# Altium integrated library Analog Devices Operational Amplifiers.IntLib: 2102 symbols (part 62 of 70)
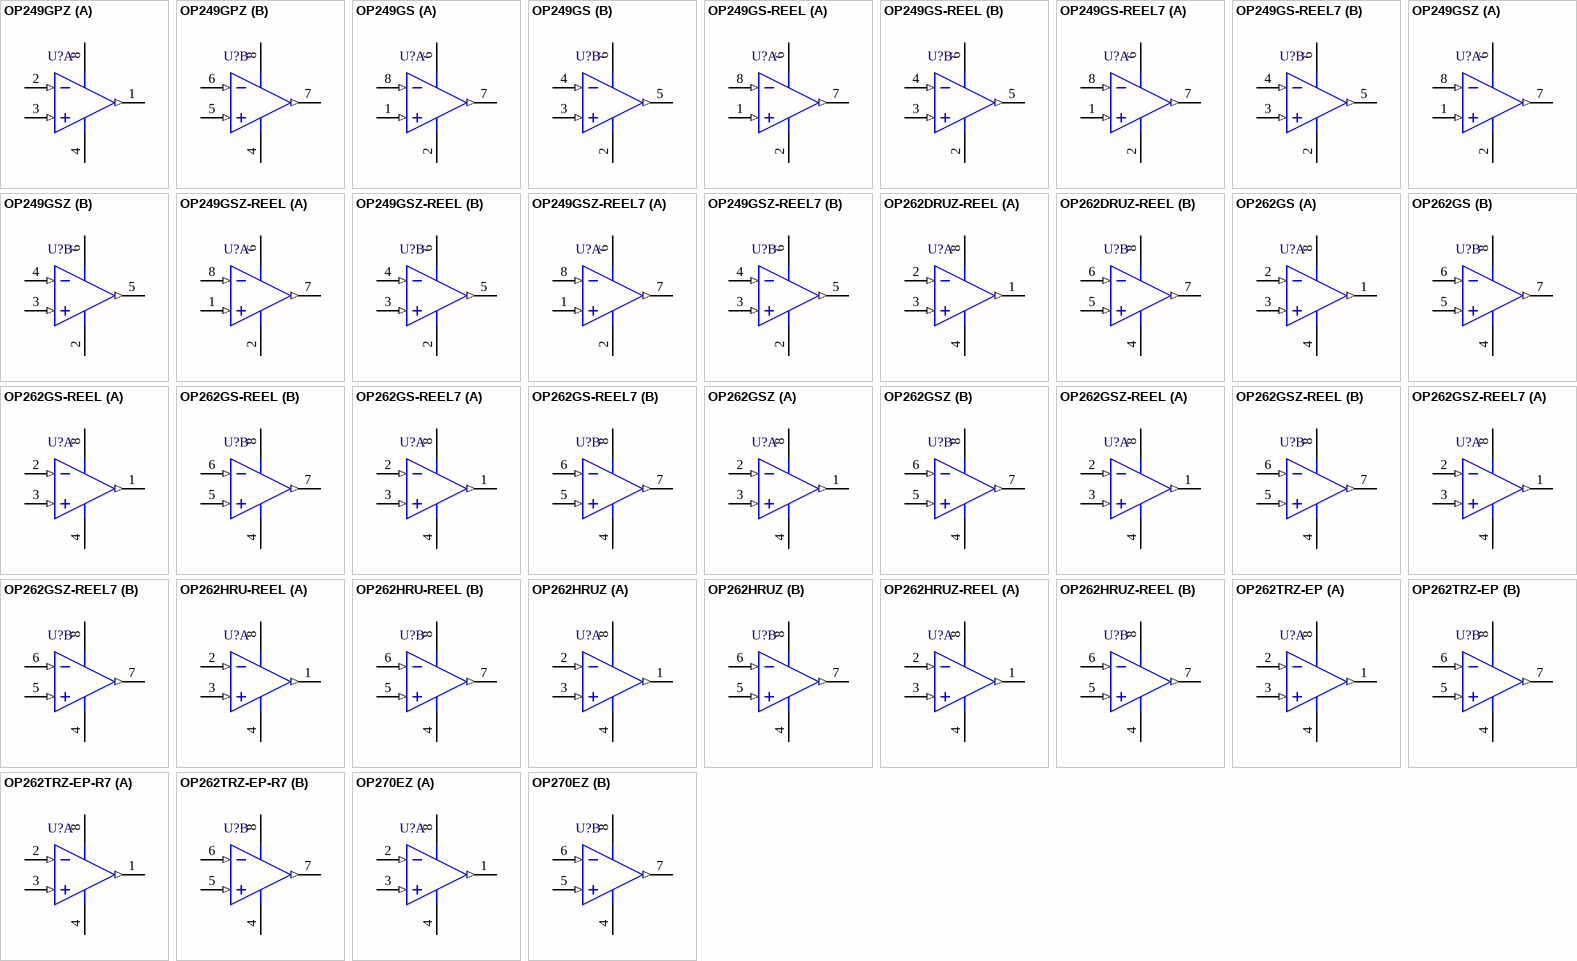
[diagram p175: symbols OP249GPZ to OP270EZ]

## OP262TRZ-EP-R7
designator U?
Double Channel Wide Bandwidth Operational Amplifier, 15 MHz BW, 13 V/us SR, Military, 8-pin SOIC (R-8), Reel; Generic Part Number: OP262; Manufacturer: Analog Devices; PartNumber: OP262TRZ-EP-R7; Amplifiers Per Package: 2; Input Bias Current: 260nA; Input Offset Voltage: 25uV; Iq/Amp: 775uA; Slew Rate: 13V/us; Small Signal Bandwidth: 15MHz; V Span Max: 12V; V Span Min: 2.7V; DatasheetVersion: Rev. G; PackageVersion: 060506-A; PackageReference: R-8; PackageDescription: 8-Pin Standard Small Outline Package, Body 3.9 x 4.9 mm, Pitch 1.27 mm; Supplier 1: Digi-Key; Supplier Part Number 1: OP262TRZ-EP-R7TR-ND; Supplier 2: Digi-Key; Supplier Part Number 2: OP262TRZ-EP-R7CT-ND; Supplier 3: Digi-Key; Supplier Part Number 3: OP262TRZ-EP-R7DKR-ND; Supplier 4: Newark; Supplier Part Number 4: 85R9010; Packing: Reel; Mounting Technology: Surface Mount; Code_JEDEC: MS-012-AA; ComponentLink1Description: Manufacturer URL; ComponentLink1URL: http://www.analog.com/en/index.html; ComponentLink2Description: Datasheet; ComponentLink2URL: http://www.analog.com/static/imported-files/data_sheets/OP162_262_462.pdf; ComponentLink3Description: Package Specification; ComponentLink3URL: http://www.analog.com/static/imported-files/packages/PKG_PDF/SOIC_Narrow%20(R)/R_8.pdf
footprint ADI-R-8_N (SOIC, 8-Leads, Body 4.9x3.9mm, Pitch 1.27mm, IPC Medium Density)
footprint ADI-R-8_L (SOIC, 8-Leads, Body 4.9x3.9mm, Pitch 1.27mm, IPC High Density)
footprint ADI-R-8_M (SOIC, 8-Leads, Body 4.9x3.9mm, Pitch 1.27mm, IPC Low Density)
pins on every part: 4 -V (power), 8 +V (power)
part A pins: 1 OUT A (out), 2 -IN A (in), 3 +IN A (in)
part B pins: 5 +IN B (in), 6 -IN B (in), 7 OUT B (out)

## OP270EZ
designator U?
Double Channel Very Low Noise Operational Amplifier, 5 MHz BW, 2.4 V/us SR, Industrial, 8-pin DIP (Q-8), Tube; Generic Part Number: OP270; Manufacturer: Analog Devices; PartNumber: OP270EZ; Amplifiers Per Package: 2; Input Bias Current: 15nA; Input Offset Voltage: 50uV; Iq/Amp: 3.25mA; Small Signal Bandwidth: 5MHz; V Span Max: 36V; V Span Min: 9V; DatasheetVersion: Rev. E; PackageReference: Q-8; PackageDescription: 8-Pin Ceramic Dual In-Line Package, Row spacing 7.62 mm, Pitch 2.54 mm; Supplier 1: Digi-Key; Supplier Part Number 1: OP270EZ-ND; Supplier 2: Farnell; Supplier Part Number 2: 3182411; Supplier 3: Newark; Supplier Part Number 3: 05F8617; Packing: Tube; Slew Rate: 2.4V/us; Mounting Technology: Through Hole; ComponentLink1Description: Manufacturer URL; ComponentLink1URL: http://www.analog.com/en/index.html; ComponentLink2Description: Datasheet; ComponentLink2URL: http://www.analog.com/static/imported-files/data_sheets/OP270.pdf; ComponentLink3Description: Package Specification; ComponentLink3URL: http://www.analog.com/static/imported-files/packages/3925655241313314758Q_8.pdf
footprint ADI-Q-8 (DIP, 8-Leads, Body 10.29x6.73mm, Pitch 2.54mm)
pins on every part: 4 -V (power), 8 +V (power)
part A pins: 1 OUT A (out), 2 -IN A (in), 3 +IN A (in)
part B pins: 5 +IN B (in), 6 -IN B (in), 7 OUT B (out)

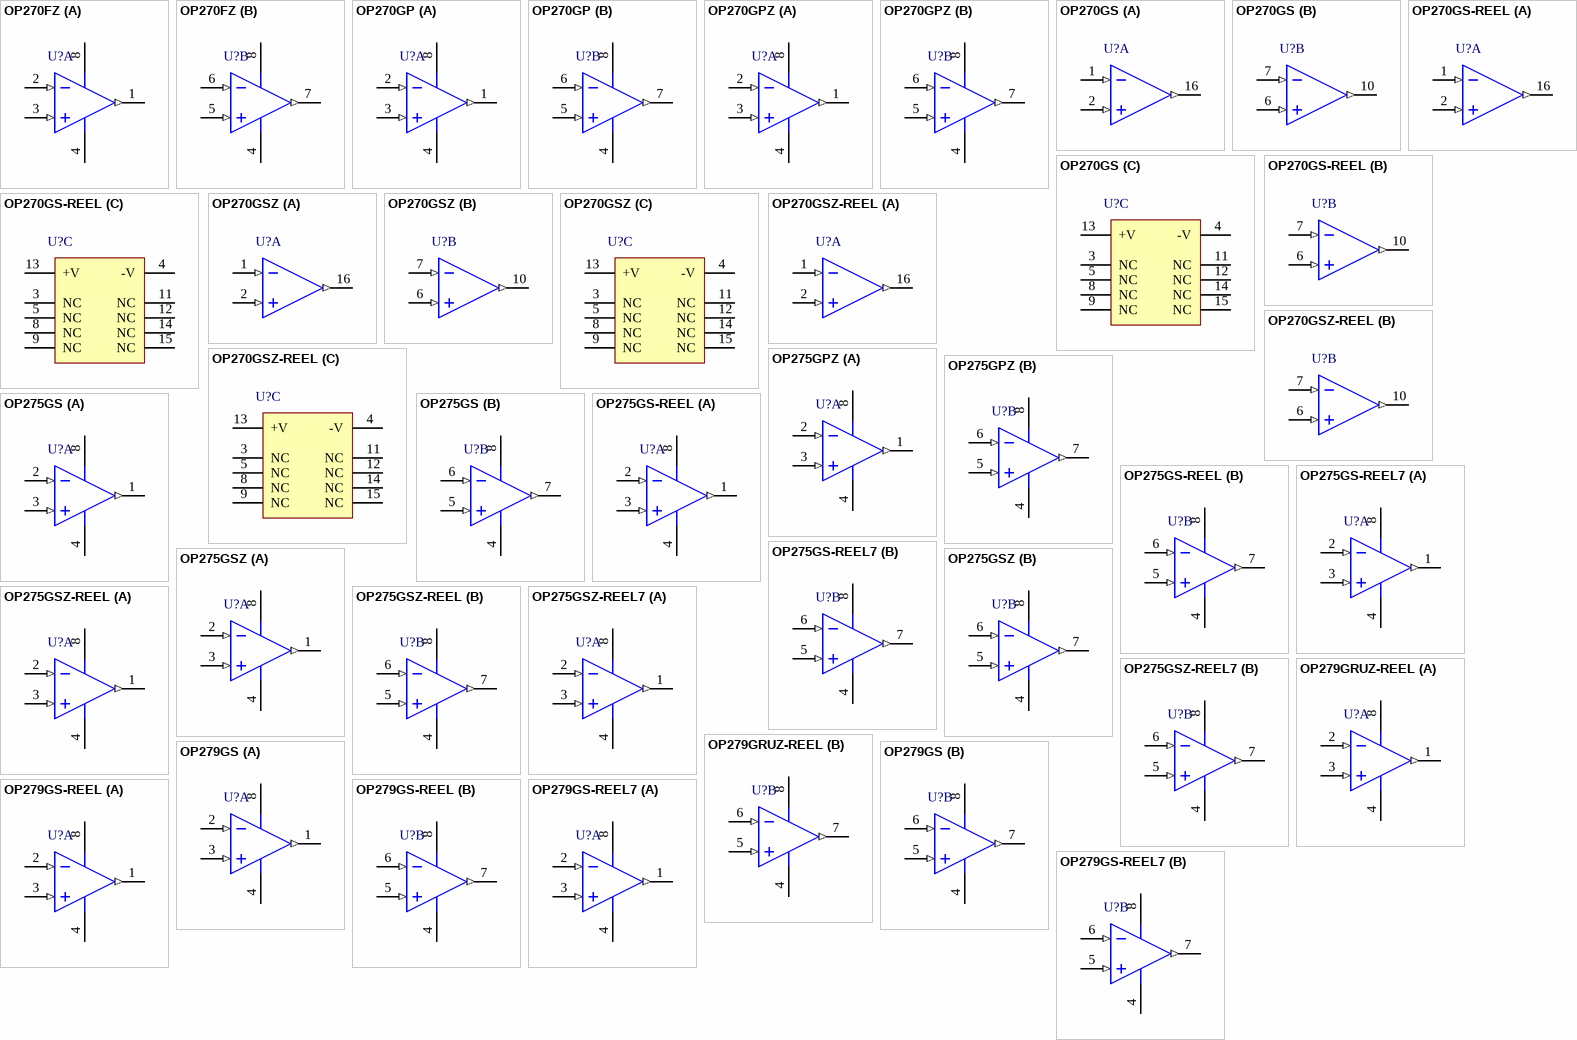
[diagram p95: symbols OP270FZ to OP279GS-REEL7]

## OP270FZ
designator U?
Double Channel Very Low Noise Operational Amplifier, 5 MHz BW, 2.4 V/us SR, Industrial, 8-pin DIP (Q-8), Tube; Generic Part Number: OP270; Manufacturer: Analog Devices; PartNumber: OP270FZ; Amplifiers Per Package: 2; Input Bias Current: 15nA; Input Offset Voltage: 50uV; Iq/Amp: 3.25mA; Small Signal Bandwidth: 5MHz; V Span Max: 36V; V Span Min: 9V; DatasheetVersion: Rev. E; PackageReference: Q-8; PackageDescription: 8-Pin Ceramic Dual In-Line Package, Row spacing 7.62 mm, Pitch 2.54 mm; Supplier 1: Digi-Key; Supplier Part Number 1: OP270FZ-ND; Supplier 2: Farnell; Supplier Part Number 2: 399450; Supplier 3: Newark; Supplier Part Number 3: 05F8618; Packing: Tube; Slew Rate: 2.4V/us; Mounting Technology: Through Hole; ComponentLink1Description: Manufacturer URL; ComponentLink1URL: http://www.analog.com/en/index.html; ComponentLink2Description: Datasheet; ComponentLink2URL: http://www.analog.com/static/imported-files/data_sheets/OP270.pdf; ComponentLink3Description: Package Specification; ComponentLink3URL: http://www.analog.com/static/imported-files/packages/3925655241313314758Q_8.pdf
footprint ADI-Q-8 (DIP, 8-Leads, Body 10.29x6.73mm, Pitch 2.54mm)
pins on every part: 4 -V (power), 8 +V (power)
part A pins: 1 OUT A (out), 2 -IN A (in), 3 +IN A (in)
part B pins: 5 +IN B (in), 6 -IN B (in), 7 OUT B (out)

## OP270GP
designator U?
Double Channel Very Low Noise Operational Amplifier, 5 MHz BW, 2.4 V/us SR, Industrial, 8-pin DIP (N-8), Tube; Generic Part Number: OP270; Manufacturer: Analog Devices; PartNumber: OP270GP; Amplifiers Per Package: 2; Input Bias Current: 15nA; Input Offset Voltage: 50uV; Iq/Amp: 3.25mA; Small Signal Bandwidth: 5MHz; V Span Max: 36V; V Span Min: 9V; DatasheetVersion: Rev. E; PackageVersion: 070606-A; PackageReference: N-8; PackageDescription: 8-Pin Plastic Dual In-Line Package, Row spacing 7.62 mm, Pitch 2.54 mm; Supplier 1: Digi-Key; Supplier Part Number 1: OP270GP-ND; Packing: Tube; Slew Rate: 2.4V/us; Mounting Technology: Through Hole; Code_JEDEC: MS-001; ComponentLink1Description: Manufacturer URL; ComponentLink1URL: http://www.analog.com/en/index.html; ComponentLink2Description: Datasheet; ComponentLink2URL: http://www.analog.com/static/imported-files/data_sheets/OP270.pdf; ComponentLink3Description: Package Specification; ComponentLink3URL: http:/www.analog.com/static/imported-files/packages/PKG_PDF/PDIP(N)/N_8.pdf
footprint ADI-N-8 (DIP, 8-Leads, Body 9.59x6.6mm, Pitch 2.54mm)
pins on every part: 4 -V (power), 8 +V (power)
part A pins: 1 OUT A (out), 2 -IN A (in), 3 +IN A (in)
part B pins: 5 +IN B (in), 6 -IN B (in), 7 OUT B (out)

## OP270GPZ
designator U?
Double Channel Very Low Noise Operational Amplifier, 5 MHz BW, 2.4 V/us SR, Industrial, 8-pin DIP (N-8), Tube; Generic Part Number: OP270; Manufacturer: Analog Devices; PartNumber: OP270GPZ; Amplifiers Per Package: 2; Input Bias Current: 15nA; Input Offset Voltage: 50uV; Iq/Amp: 3.25mA; Small Signal Bandwidth: 5MHz; V Span Max: 36V; V Span Min: 9V; DatasheetVersion: Rev. E; PackageVersion: 070606-A; PackageReference: N-8; PackageDescription: 8-Pin Plastic Dual In-Line Package, Row spacing 7.62 mm, Pitch 2.54 mm; Supplier 1: Digi-Key; Supplier Part Number 1: OP270GPZ-ND; Supplier 2: Farnell; Supplier Part Number 2: 1523894; Supplier 3: Farnell; Supplier Part Number 3: 9604723; Supplier 4: Newark; Supplier Part Number 4: 59K8832; Packing: Tube; Slew Rate: 2.4V/us; Mounting Technology: Through Hole; Code_JEDEC: MS-001; ComponentLink1Description: Manufacturer URL; ComponentLink1URL: http://www.analog.com/en/index.html; ComponentLink2Description: Datasheet; ComponentLink2URL: http://www.analog.com/static/imported-files/data_sheets/OP270.pdf; ComponentLink3Description: Package Specification; ComponentLink3URL: http:/www.analog.com/static/imported-files/packages/PKG_PDF/PDIP(N)/N_8.pdf
footprint ADI-N-8 (DIP, 8-Leads, Body 9.59x6.6mm, Pitch 2.54mm)
pins on every part: 4 -V (power), 8 +V (power)
part A pins: 1 OUT A (out), 2 -IN A (in), 3 +IN A (in)
part B pins: 5 +IN B (in), 6 -IN B (in), 7 OUT B (out)

## OP270GS
designator U?
Double Channel Very Low Noise Operational Amplifier, 5 MHz BW, 2.4 V/us SR, Industrial, 16-pin SOIC (RW-16), Tube; Generic Part Number: OP270; Manufacturer: Analog Devices; PartNumber: OP270GS; Amplifiers Per Package: 2; Input Bias Current: 15nA; Input Offset Voltage: 50uV; Iq/Amp: 3.25mA; Small Signal Bandwidth: 5MHz; V Span Max: 36V; V Span Min: 9V; DatasheetVersion: Rev. E; PackageVersion: 032707-B; PackageReference: RW-16; PackageDescription: 16-Pin Standard Small Outline Package, Body 10.3 x 7.5 mm, Pitch 1.27 mm; Supplier 1: Digi-Key; Supplier Part Number 1: OP270GS-ND; Packing: Tube; Slew Rate: 2.4V/us; Mounting Technology: Surface Mount; Code_JEDEC: MS-013-AA; ComponentLink1Description: Manufacturer URL; ComponentLink1URL: http://www.analog.com/en/index.html; ComponentLink2Description: Datasheet; ComponentLink2URL: http://www.analog.com/static/imported-files/data_sheets/OP270.pdf; ComponentLink3Description: Package Specification; ComponentLink3URL: http://www.analog.com/static/imported-files/packages/PKG_PDF/SOIC_WIDE%20%28RW%29/RW_16.pdf
footprint ADI-RW-16_N (SOIC, 16-Leads, Body 10.3x7.5mm, Pitch 1.27mm,IPC Medium Density)
footprint ADI-RW-16_L (SOIC, 16-Leads, Body 10.3x7.5mm, Pitch 1.27mm, IPC High Density)
footprint ADI-RW-16_M (SOIC, 16-Leads, Body 10.3x7.5mm, Pitch 1.27mm, IPC Low Density)
part A pins: 1 -IN A (in), 2 +IN A (in), 16 OUT A (out)
part B pins: 6 +IN B (in), 7 -IN B (in), 10 OUT B (out)
part C pins: 3 NC, 4 -V (power), 5 NC, 8 NC, 9 NC, 11 NC, 12 NC, 13 +V (power), 14 NC, 15 NC

## OP270GS-REEL
designator U?
Double Channel Very Low Noise Operational Amplifier, 5 MHz BW, 2.4 V/us SR, Industrial, 16-pin SOIC (RW-16), Reel; Generic Part Number: OP270; Manufacturer: Analog Devices; PartNumber: OP270GS-REEL; Amplifiers Per Package: 2; Input Bias Current: 15nA; Input Offset Voltage: 50uV; Iq/Amp: 3.25mA; Small Signal Bandwidth: 5MHz; V Span Max: 36V; V Span Min: 9V; DatasheetVersion: Rev. E; PackageVersion: 032707-B; PackageReference: RW-16; PackageDescription: 16-Pin Standard Small Outline Package, Body 10.3 x 7.5 mm, Pitch 1.27 mm; Supplier 1: Digi-Key; Supplier Part Number 1: OP270GS-REEL-ND; Supplier 2: Newark; Supplier Part Number 2: 09B8382; Packing: Reel; Slew Rate: 2.4V/us; Mounting Technology: Surface Mount; Code_JEDEC: MS-013-AA; ComponentLink1Description: Manufacturer URL; ComponentLink1URL: http://www.analog.com/en/index.html; ComponentLink2Description: Datasheet; ComponentLink2URL: http://www.analog.com/static/imported-files/data_sheets/OP270.pdf; ComponentLink3Description: Package Specification; ComponentLink3URL: http://www.analog.com/static/imported-files/packages/PKG_PDF/SOIC_WIDE%20%28RW%29/RW_16.pdf
footprint ADI-RW-16_N (SOIC, 16-Leads, Body 10.3x7.5mm, Pitch 1.27mm,IPC Medium Density)
footprint ADI-RW-16_L (SOIC, 16-Leads, Body 10.3x7.5mm, Pitch 1.27mm, IPC High Density)
footprint ADI-RW-16_M (SOIC, 16-Leads, Body 10.3x7.5mm, Pitch 1.27mm, IPC Low Density)
part A pins: 1 -IN A (in), 2 +IN A (in), 16 OUT A (out)
part B pins: 6 +IN B (in), 7 -IN B (in), 10 OUT B (out)
part C pins: 3 NC, 4 -V (power), 5 NC, 8 NC, 9 NC, 11 NC, 12 NC, 13 +V (power), 14 NC, 15 NC

## OP270GSZ
designator U?
Double Channel Very Low Noise Operational Amplifier, 5 MHz BW, 2.4 V/us SR, Industrial, 16-pin SOIC (RW-16), Tube; Generic Part Number: OP270; Manufacturer: Analog Devices; PartNumber: OP270GSZ; Amplifiers Per Package: 2; Input Bias Current: 15nA; Input Offset Voltage: 50uV; Iq/Amp: 3.25mA; Small Signal Bandwidth: 5MHz; V Span Max: 36V; V Span Min: 9V; DatasheetVersion: Rev. E; PackageVersion: 032707-B; PackageReference: RW-16; PackageDescription: 16-Pin Standard Small Outline Package, Body 10.3 x 7.5 mm, Pitch 1.27 mm; Supplier 1: Digi-Key; Supplier Part Number 1: OP270GSZ-ND; Supplier 2: Newark; Supplier Part Number 2: 59K8833; Packing: Tube; Slew Rate: 2.4V/us; Mounting Technology: Surface Mount; Code_JEDEC: MS-013-AA; ComponentLink1Description: Manufacturer URL; ComponentLink1URL: http://www.analog.com/en/index.html; ComponentLink2Description: Datasheet; ComponentLink2URL: http://www.analog.com/static/imported-files/data_sheets/OP270.pdf; ComponentLink3Description: Package Specification; ComponentLink3URL: http://www.analog.com/static/imported-files/packages/PKG_PDF/SOIC_WIDE%20%28RW%29/RW_16.pdf
footprint ADI-RW-16_N (SOIC, 16-Leads, Body 10.3x7.5mm, Pitch 1.27mm,IPC Medium Density)
footprint ADI-RW-16_L (SOIC, 16-Leads, Body 10.3x7.5mm, Pitch 1.27mm, IPC High Density)
footprint ADI-RW-16_M (SOIC, 16-Leads, Body 10.3x7.5mm, Pitch 1.27mm, IPC Low Density)
part A pins: 1 -IN A (in), 2 +IN A (in), 16 OUT A (out)
part B pins: 6 +IN B (in), 7 -IN B (in), 10 OUT B (out)
part C pins: 3 NC, 4 -V (power), 5 NC, 8 NC, 9 NC, 11 NC, 12 NC, 13 +V (power), 14 NC, 15 NC

## OP270GSZ-REEL
designator U?
Double Channel Very Low Noise Operational Amplifier, 5 MHz BW, 2.4 V/us SR, Industrial, 16-pin SOIC (RW-16), Reel; Generic Part Number: OP270; Manufacturer: Analog Devices; PartNumber: OP270GSZ-REEL; Amplifiers Per Package: 2; Input Bias Current: 15nA; Input Offset Voltage: 50uV; Iq/Amp: 3.25mA; Small Signal Bandwidth: 5MHz; V Span Max: 36V; V Span Min: 9V; DatasheetVersion: Rev. E; PackageVersion: 032707-B; PackageReference: RW-16; PackageDescription: 16-Pin Standard Small Outline Package, Body 10.3 x 7.5 mm, Pitch 1.27 mm; Supplier 1: Digi-Key; Supplier Part Number 1: OP270GSZ-REELTR-ND; Supplier 2: Digi-Key; Supplier Part Number 2: OP270GSZ-REELCT-ND; Supplier 3: Digi-Key; Supplier Part Number 3: OP270GSZ-REELDKR-ND; Supplier 4: Newark; Supplier Part Number 4: 59K8834; Packing: Reel; Slew Rate: 2.4V/us; Mounting Technology: Surface Mount; Code_JEDEC: MS-013-AA; ComponentLink1Description: Manufacturer URL; ComponentLink1URL: http://www.analog.com/en/index.html; ComponentLink2Description: Datasheet; ComponentLink2URL: http://www.analog.com/static/imported-files/data_sheets/OP270.pdf; ComponentLink3Description: Package Specification; ComponentLink3URL: http://www.analog.com/static/imported-files/packages/PKG_PDF/SOIC_WIDE%20%28RW%29/RW_16.pdf
footprint ADI-RW-16_N (SOIC, 16-Leads, Body 10.3x7.5mm, Pitch 1.27mm,IPC Medium Density)
footprint ADI-RW-16_L (SOIC, 16-Leads, Body 10.3x7.5mm, Pitch 1.27mm, IPC High Density)
footprint ADI-RW-16_M (SOIC, 16-Leads, Body 10.3x7.5mm, Pitch 1.27mm, IPC Low Density)
part A pins: 1 -IN A (in), 2 +IN A (in), 16 OUT A (out)
part B pins: 6 +IN B (in), 7 -IN B (in), 10 OUT B (out)
part C pins: 3 NC, 4 -V (power), 5 NC, 8 NC, 9 NC, 11 NC, 12 NC, 13 +V (power), 14 NC, 15 NC

## OP275GPZ
designator U?
Double Channel Excellent Sonic Characteristics Operational Amplifier, 9 MHz BW, 22 V/us SR, Industrial, 8-pin DIP (N-8), Tube; Generic Part Number: OP275; Manufacturer: Analog Devices; PartNumber: OP275GPZ; Amplifiers Per Package: 2; Input Bias Current: 100nA; Input Offset Voltage: 1mV; Iq/Amp: 2.5mA; Slew Rate: 22V/us; Small Signal Bandwidth: 9MHz; V Span Max: 44V; V Span Min: 9V; DatasheetVersion: Rev. C; PackageVersion: 070606-A; PackageReference: N-8; PackageDescription: 8-Pin Plastic Dual In-Line Package, Row spacing 7.62 mm, Pitch 2.54 mm; Supplier 1: Digi-Key; Supplier Part Number 1: OP275GPZ-ND; Supplier 2: Farnell; Supplier Part Number 2: 1523882; Supplier 3: Farnell; Supplier Part Number 3: 9603760; Supplier 4: Newark; Supplier Part Number 4: 19M1029; Mounting Technology: Through Hole; Code_JEDEC: MS-001; ComponentLink1Description: Manufacturer URL; ComponentLink1URL: http://www.analog.com/en/index.html; ComponentLink2Description: Datasheet; ComponentLink2URL: http://www.analog.com/static/imported-files/data_sheets/OP275.pdf; ComponentLink3Description: Package Specification; ComponentLink3URL: http:/www.analog.com/static/imported-files/packages/PKG_PDF/PDIP(N)/N_8.pdf
footprint ADI-N-8 (DIP, 8-Leads, Body 9.59x6.6mm, Pitch 2.54mm)
pins on every part: 4 -V (power), 8 +V (power)
part A pins: 1 OUT A (out), 2 -IN A (in), 3 +IN A (in)
part B pins: 5 +IN B (in), 6 -IN B (in), 7 OUT B (out)

## OP275GS
designator U?
Double Channel Excellent Sonic Characteristics Operational Amplifier, 9 MHz BW, 22 V/us SR, Industrial, 8-pin SOIC (R-8), Tube; Generic Part Number: OP275; Manufacturer: Analog Devices; PartNumber: OP275GS; Amplifiers Per Package: 2; Input Bias Current: 100nA; Input Offset Voltage: 1mV; Iq/Amp: 2.5mA; Slew Rate: 22V/us; Small Signal Bandwidth: 9MHz; V Span Max: 44V; V Span Min: 9V; DatasheetVersion: Rev. C; PackageVersion: 060506-A; PackageReference: R-8; PackageDescription: 8-Pin Standard Small Outline Package, Body 3.9 x 4.9 mm, Pitch 1.27 mm; Supplier 1: Digi-Key; Supplier Part Number 1: OP275GS-ND; Mounting Technology: Surface Mount; Code_JEDEC: MS-012-AA; ComponentLink1Description: Manufacturer URL; ComponentLink1URL: http://www.analog.com/en/index.html; ComponentLink2Description: Datasheet; ComponentLink2URL: http://www.analog.com/static/imported-files/data_sheets/OP275.pdf; ComponentLink3Description: Package Specification; ComponentLink3URL: http://www.analog.com/static/imported-files/packages/PKG_PDF/SOIC_Narrow%20(R)/R_8.pdf
footprint ADI-R-8_N (SOIC, 8-Leads, Body 4.9x3.9mm, Pitch 1.27mm, IPC Medium Density)
footprint ADI-R-8_L (SOIC, 8-Leads, Body 4.9x3.9mm, Pitch 1.27mm, IPC High Density)
footprint ADI-R-8_M (SOIC, 8-Leads, Body 4.9x3.9mm, Pitch 1.27mm, IPC Low Density)
pins on every part: 4 -V (power), 8 +V (power)
part A pins: 1 OUT A (out), 2 -IN A (in), 3 +IN A (in)
part B pins: 5 +IN B (in), 6 -IN B (in), 7 OUT B (out)

## OP275GS-REEL
designator U?
Double Channel Excellent Sonic Characteristics Operational Amplifier, 9 MHz BW, 22 V/us SR, Industrial, 8-pin SOIC (R-8), Reel; Generic Part Number: OP275; Manufacturer: Analog Devices; PartNumber: OP275GS-REEL; Amplifiers Per Package: 2; Input Bias Current: 100nA; Input Offset Voltage: 1mV; Iq/Amp: 2.5mA; Slew Rate: 22V/us; Small Signal Bandwidth: 9MHz; V Span Max: 44V; V Span Min: 9V; DatasheetVersion: Rev. C; PackageVersion: 060506-A; PackageReference: R-8; PackageDescription: 8-Pin Standard Small Outline Package, Body 3.9 x 4.9 mm, Pitch 1.27 mm; Supplier 1: Digi-Key; Supplier Part Number 1: OP275GS-REEL-ND; Supplier 2: Newark; Supplier Part Number 2: 09B8384; Mounting Technology: Surface Mount; Code_JEDEC: MS-012-AA; ComponentLink1Description: Manufacturer URL; ComponentLink1URL: http://www.analog.com/en/index.html; ComponentLink2Description: Datasheet; ComponentLink2URL: http://www.analog.com/static/imported-files/data_sheets/OP275.pdf; ComponentLink3Description: Package Specification; ComponentLink3URL: http://www.analog.com/static/imported-files/packages/PKG_PDF/SOIC_Narrow%20(R)/R_8.pdf
footprint ADI-R-8_N (SOIC, 8-Leads, Body 4.9x3.9mm, Pitch 1.27mm, IPC Medium Density)
footprint ADI-R-8_L (SOIC, 8-Leads, Body 4.9x3.9mm, Pitch 1.27mm, IPC High Density)
footprint ADI-R-8_M (SOIC, 8-Leads, Body 4.9x3.9mm, Pitch 1.27mm, IPC Low Density)
pins on every part: 4 -V (power), 8 +V (power)
part A pins: 1 OUT A (out), 2 -IN A (in), 3 +IN A (in)
part B pins: 5 +IN B (in), 6 -IN B (in), 7 OUT B (out)

## OP275GS-REEL7
designator U?
Double Channel Excellent Sonic Characteristics Operational Amplifier, 9 MHz BW, 22 V/us SR, Industrial, 8-pin SOIC (R-8), Reel; Generic Part Number: OP275; Manufacturer: Analog Devices; PartNumber: OP275GS-REEL7; Amplifiers Per Package: 2; Input Bias Current: 100nA; Input Offset Voltage: 1mV; Iq/Amp: 2.5mA; Slew Rate: 22V/us; Small Signal Bandwidth: 9MHz; V Span Max: 44V; V Span Min: 9V; DatasheetVersion: Rev. C; PackageVersion: 060506-A; PackageReference: R-8; PackageDescription: 8-Pin Standard Small Outline Package, Body 3.9 x 4.9 mm, Pitch 1.27 mm; Supplier 1: Digi-Key; Supplier Part Number 1: OP275GS-REEL7TR-ND; Supplier 2: Digi-Key; Supplier Part Number 2: OP275GS-REEL7CT-ND; Supplier 3: Digi-Key; Supplier Part Number 3: OP275GS-REEL7DKR-ND; Supplier 4: Newark; Supplier Part Number 4: 09B8385; Mounting Technology: Surface Mount; Code_JEDEC: MS-012-AA; ComponentLink1Description: Manufacturer URL; ComponentLink1URL: http://www.analog.com/en/index.html; ComponentLink2Description: Datasheet; ComponentLink2URL: http://www.analog.com/static/imported-files/data_sheets/OP275.pdf; ComponentLink3Description: Package Specification; ComponentLink3URL: http://www.analog.com/static/imported-files/packages/PKG_PDF/SOIC_Narrow%20(R)/R_8.pdf
footprint ADI-R-8_N (SOIC, 8-Leads, Body 4.9x3.9mm, Pitch 1.27mm, IPC Medium Density)
footprint ADI-R-8_L (SOIC, 8-Leads, Body 4.9x3.9mm, Pitch 1.27mm, IPC High Density)
footprint ADI-R-8_M (SOIC, 8-Leads, Body 4.9x3.9mm, Pitch 1.27mm, IPC Low Density)
pins on every part: 4 -V (power), 8 +V (power)
part A pins: 1 OUT A (out), 2 -IN A (in), 3 +IN A (in)
part B pins: 5 +IN B (in), 6 -IN B (in), 7 OUT B (out)

## OP275GSZ
designator U?
Double Channel Excellent Sonic Characteristics Operational Amplifier, 9 MHz BW, 22 V/us SR, Industrial, 8-pin SOIC (R-8), Tube; Generic Part Number: OP275; Manufacturer: Analog Devices; PartNumber: OP275GSZ; Amplifiers Per Package: 2; Input Bias Current: 100nA; Input Offset Voltage: 1mV; Iq/Amp: 2.5mA; Slew Rate: 22V/us; Small Signal Bandwidth: 9MHz; V Span Max: 44V; V Span Min: 9V; DatasheetVersion: Rev. C; PackageVersion: 060506-A; PackageReference: R-8; PackageDescription: 8-Pin Standard Small Outline Package, Body 3.9 x 4.9 mm, Pitch 1.27 mm; Supplier 1: Digi-Key; Supplier Part Number 1: OP275GSZ-ND; Supplier 2: Farnell; Supplier Part Number 2: 9426280; Supplier 3: Newark; Supplier Part Number 3: 88H0660; Mounting Technology: Surface Mount; Code_JEDEC: MS-012-AA; ComponentLink1Description: Manufacturer URL; ComponentLink1URL: http://www.analog.com/en/index.html; ComponentLink2Description: Datasheet; ComponentLink2URL: http://www.analog.com/static/imported-files/data_sheets/OP275.pdf; ComponentLink3Description: Package Specification; ComponentLink3URL: http://www.analog.com/static/imported-files/packages/PKG_PDF/SOIC_Narrow%20(R)/R_8.pdf
footprint ADI-R-8_N (SOIC, 8-Leads, Body 4.9x3.9mm, Pitch 1.27mm, IPC Medium Density)
footprint ADI-R-8_L (SOIC, 8-Leads, Body 4.9x3.9mm, Pitch 1.27mm, IPC High Density)
footprint ADI-R-8_M (SOIC, 8-Leads, Body 4.9x3.9mm, Pitch 1.27mm, IPC Low Density)
pins on every part: 4 -V (power), 8 +V (power)
part A pins: 1 OUT A (out), 2 -IN A (in), 3 +IN A (in)
part B pins: 5 +IN B (in), 6 -IN B (in), 7 OUT B (out)

## OP275GSZ-REEL
designator U?
Double Channel Excellent Sonic Characteristics Operational Amplifier, 9 MHz BW, 22 V/us SR, Industrial, 8-pin SOIC (R-8), Reel; Generic Part Number: OP275; Manufacturer: Analog Devices; PartNumber: OP275GSZ-REEL; Amplifiers Per Package: 2; Input Bias Current: 100nA; Input Offset Voltage: 1mV; Iq/Amp: 2.5mA; Slew Rate: 22V/us; Small Signal Bandwidth: 9MHz; V Span Max: 44V; V Span Min: 9V; DatasheetVersion: Rev. C; PackageVersion: 060506-A; PackageReference: R-8; PackageDescription: 8-Pin Standard Small Outline Package, Body 3.9 x 4.9 mm, Pitch 1.27 mm; Supplier 1: Digi-Key; Supplier Part Number 1: OP275GSZ-REEL-ND; Supplier 2: Newark; Supplier Part Number 2: 88H0661; Mounting Technology: Surface Mount; Code_JEDEC: MS-012-AA; ComponentLink1Description: Manufacturer URL; ComponentLink1URL: http://www.analog.com/en/index.html; ComponentLink2Description: Datasheet; ComponentLink2URL: http://www.analog.com/static/imported-files/data_sheets/OP275.pdf; ComponentLink3Description: Package Specification; ComponentLink3URL: http://www.analog.com/static/imported-files/packages/PKG_PDF/SOIC_Narrow%20(R)/R_8.pdf
footprint ADI-R-8_N (SOIC, 8-Leads, Body 4.9x3.9mm, Pitch 1.27mm, IPC Medium Density)
footprint ADI-R-8_L (SOIC, 8-Leads, Body 4.9x3.9mm, Pitch 1.27mm, IPC High Density)
footprint ADI-R-8_M (SOIC, 8-Leads, Body 4.9x3.9mm, Pitch 1.27mm, IPC Low Density)
pins on every part: 4 -V (power), 8 +V (power)
part A pins: 1 OUT A (out), 2 -IN A (in), 3 +IN A (in)
part B pins: 5 +IN B (in), 6 -IN B (in), 7 OUT B (out)

## OP275GSZ-REEL7
designator U?
Double Channel Excellent Sonic Characteristics Operational Amplifier, 9 MHz BW, 22 V/us SR, Industrial, 8-pin SOIC (R-8), Reel; Generic Part Number: OP275; Manufacturer: Analog Devices; PartNumber: OP275GSZ-REEL7; Amplifiers Per Package: 2; Input Bias Current: 100nA; Input Offset Voltage: 1mV; Iq/Amp: 2.5mA; Slew Rate: 22V/us; Small Signal Bandwidth: 9MHz; V Span Max: 44V; V Span Min: 9V; DatasheetVersion: Rev. C; PackageVersion: 060506-A; PackageReference: R-8; PackageDescription: 8-Pin Standard Small Outline Package, Body 3.9 x 4.9 mm, Pitch 1.27 mm; Supplier 1: Digi-Key; Supplier Part Number 1: OP275GSZ-REEL7TR-ND; Supplier 2: Digi-Key; Supplier Part Number 2: OP275GSZ-REEL7CT-ND; Supplier 3: Digi-Key; Supplier Part Number 3: OP275GSZ-REEL7DKR-ND; Supplier 4: Newark; Supplier Part Number 4: 88H0662; Mounting Technology: Surface Mount; Code_JEDEC: MS-012-AA; ComponentLink1Description: Manufacturer URL; ComponentLink1URL: http://www.analog.com/en/index.html; ComponentLink2Description: Datasheet; ComponentLink2URL: http://www.analog.com/static/imported-files/data_sheets/OP275.pdf; ComponentLink3Description: Package Specification; ComponentLink3URL: http://www.analog.com/static/imported-files/packages/PKG_PDF/SOIC_Narrow%20(R)/R_8.pdf
footprint ADI-R-8_N (SOIC, 8-Leads, Body 4.9x3.9mm, Pitch 1.27mm, IPC Medium Density)
footprint ADI-R-8_L (SOIC, 8-Leads, Body 4.9x3.9mm, Pitch 1.27mm, IPC High Density)
footprint ADI-R-8_M (SOIC, 8-Leads, Body 4.9x3.9mm, Pitch 1.27mm, IPC Low Density)
pins on every part: 4 -V (power), 8 +V (power)
part A pins: 1 OUT A (out), 2 -IN A (in), 3 +IN A (in)
part B pins: 5 +IN B (in), 6 -IN B (in), 7 OUT B (out)

## OP279GRUZ-REEL
designator U?
Double Channel Rail-to-Rail Operational Amplifier, 5 MHz BW, 3 V/us SR, Industrial, 8-pin SOP (RU-8), Reel; Generic Part Number: OP279; Manufacturer: Analog Devices; PartNumber: OP279GRUZ-REEL; Amplifiers Per Package: 2; Input Bias Current: 300nA; Input Offset Voltage: 4mV; Iq/Amp: 3.5mA; Slew Rate: 3V/us; Small Signal Bandwidth: 5MHz; V Span Max: 12V; V Span Min: 4.5V; DatasheetVersion: Rev. G; PackageReference: RU-8; PackageDescription: 8-Pin Thin Shrink Small Outline Package, Body 3 x 4.4 mm, Pitch 0.65 mm; Supplier 1: Digi-Key; Supplier Part Number 1: OP279GRUZ-REELTR-ND; Supplier 2: Digi-Key; Supplier Part Number 2: OP279GRUZ-REELCT-ND; Supplier 3: Digi-Key; Supplier Part Number 3: OP279GRUZ-REELDKR-ND; Mounting Technology: Surface Mount; Code_JEDEC: MO-153AA; ComponentLink1Description: Manufacturer URL; ComponentLink1URL: http://www.analog.com/en/index.html; ComponentLink2Description: Datasheet; ComponentLink2URL: http://www.analog.com/static/imported-files/data_sheets/OP179_279.pdf; ComponentLink3Description: Package Specification; ComponentLink3URL: http://www.analog.com/static/imported-files/packages/359224089841708504863856053953356548880RU08.pdf
footprint ADI-RU-8_N (SOP, 8-Leads, Body 4.4x3mm, Pitch 0.65mm, IPC Medium Density)
footprint ADI-RU-8_L (SOP, 8-Leads, Body 4.4x3mm, Pitch 0.65mm, IPC High Density)
footprint ADI-RU-8_M (SOP, 8-Leads, Body 4.4x3mm, Pitch 0.65mm, IPC Low Density)
pins on every part: 4 -V (power), 8 +V (power)
part A pins: 1 OUT A (out), 2 -IN A (in), 3 +IN A (in)
part B pins: 5 +IN B (in), 6 -IN B (in), 7 OUT B (out)

## OP279GS
designator U?
Double Channel Rail-to-Rail Operational Amplifier, 5 MHz BW, 3 V/us SR, Industrial, 8-pin SOIC (R-8), Tube; Generic Part Number: OP279; Manufacturer: Analog Devices; PartNumber: OP279GS; Amplifiers Per Package: 2; Input Bias Current: 300nA; Input Offset Voltage: 4mV; Iq/Amp: 3.5mA; Slew Rate: 3V/us; Small Signal Bandwidth: 5MHz; V Span Max: 12V; V Span Min: 4.5V; DatasheetVersion: Rev. G; PackageVersion: 060506-A; PackageReference: R-8; PackageDescription: 8-Pin Standard Small Outline Package, Body 3.9 x 4.9 mm, Pitch 1.27 mm; Supplier 1: Digi-Key; Supplier Part Number 1: OP279GS-ND; Mounting Technology: Surface Mount; Code_JEDEC: MS-012-AA; ComponentLink1Description: Manufacturer URL; ComponentLink1URL: http://www.analog.com/en/index.html; ComponentLink2Description: Datasheet; ComponentLink2URL: http://www.analog.com/static/imported-files/data_sheets/OP179_279.pdf; ComponentLink3Description: Package Specification; ComponentLink3URL: http://www.analog.com/static/imported-files/packages/PKG_PDF/SOIC_Narrow%20(R)/R_8.pdf
footprint ADI-R-8_N (SOIC, 8-Leads, Body 4.9x3.9mm, Pitch 1.27mm, IPC Medium Density)
footprint ADI-R-8_L (SOIC, 8-Leads, Body 4.9x3.9mm, Pitch 1.27mm, IPC High Density)
footprint ADI-R-8_M (SOIC, 8-Leads, Body 4.9x3.9mm, Pitch 1.27mm, IPC Low Density)
pins on every part: 4 -V (power), 8 +V (power)
part A pins: 1 OUT A (out), 2 -IN A (in), 3 +IN A (in)
part B pins: 5 +IN B (in), 6 -IN B (in), 7 OUT B (out)

## OP279GS-REEL
designator U?
Double Channel Rail-to-Rail Operational Amplifier, 5 MHz BW, 3 V/us SR, Industrial, 8-pin SOIC (R-8), Reel; Generic Part Number: OP279; Manufacturer: Analog Devices; PartNumber: OP279GS-REEL; Amplifiers Per Package: 2; Input Bias Current: 300nA; Input Offset Voltage: 4mV; Iq/Amp: 3.5mA; Slew Rate: 3V/us; Small Signal Bandwidth: 5MHz; V Span Max: 12V; V Span Min: 4.5V; DatasheetVersion: Rev. G; PackageVersion: 060506-A; PackageReference: R-8; PackageDescription: 8-Pin Standard Small Outline Package, Body 3.9 x 4.9 mm, Pitch 1.27 mm; Supplier 1: Digi-Key; Supplier Part Number 1: OP279GS-REEL-ND; Mounting Technology: Surface Mount; Code_JEDEC: MS-012-AA; ComponentLink1Description: Manufacturer URL; ComponentLink1URL: http://www.analog.com/en/index.html; ComponentLink2Description: Datasheet; ComponentLink2URL: http://www.analog.com/static/imported-files/data_sheets/OP179_279.pdf; ComponentLink3Description: Package Specification; ComponentLink3URL: http://www.analog.com/static/imported-files/packages/PKG_PDF/SOIC_Narrow%20(R)/R_8.pdf
footprint ADI-R-8_N (SOIC, 8-Leads, Body 4.9x3.9mm, Pitch 1.27mm, IPC Medium Density)
footprint ADI-R-8_L (SOIC, 8-Leads, Body 4.9x3.9mm, Pitch 1.27mm, IPC High Density)
footprint ADI-R-8_M (SOIC, 8-Leads, Body 4.9x3.9mm, Pitch 1.27mm, IPC Low Density)
pins on every part: 4 -V (power), 8 +V (power)
part A pins: 1 OUT A (out), 2 -IN A (in), 3 +IN A (in)
part B pins: 5 +IN B (in), 6 -IN B (in), 7 OUT B (out)

## OP279GS-REEL7
designator U?
Double Channel Rail-to-Rail Operational Amplifier, 5 MHz BW, 3 V/us SR, Industrial, 8-pin SOIC (R-8), Reel; Generic Part Number: OP279; Manufacturer: Analog Devices; PartNumber: OP279GS-REEL7; Amplifiers Per Package: 2; Input Bias Current: 300nA; Input Offset Voltage: 4mV; Iq/Amp: 3.5mA; Slew Rate: 3V/us; Small Signal Bandwidth: 5MHz; V Span Max: 12V; V Span Min: 4.5V; DatasheetVersion: Rev. G; PackageVersion: 060506-A; PackageReference: R-8; PackageDescription: 8-Pin Standard Small Outline Package, Body 3.9 x 4.9 mm, Pitch 1.27 mm; Supplier 1: Digi-Key; Supplier Part Number 1: OP279GS-REEL7TR-ND; Supplier 2: Newark; Supplier Part Number 2: 09B8388; Mounting Technology: Surface Mount; Code_JEDEC: MS-012-AA; ComponentLink1Description: Manufacturer URL; ComponentLink1URL: http://www.analog.com/en/index.html; ComponentLink2Description: Datasheet; ComponentLink2URL: http://www.analog.com/static/imported-files/data_sheets/OP179_279.pdf; ComponentLink3Description: Package Specification; ComponentLink3URL: http://www.analog.com/static/imported-files/packages/PKG_PDF/SOIC_Narrow%20(R)/R_8.pdf
footprint ADI-R-8_N (SOIC, 8-Leads, Body 4.9x3.9mm, Pitch 1.27mm, IPC Medium Density)
footprint ADI-R-8_L (SOIC, 8-Leads, Body 4.9x3.9mm, Pitch 1.27mm, IPC High Density)
footprint ADI-R-8_M (SOIC, 8-Leads, Body 4.9x3.9mm, Pitch 1.27mm, IPC Low Density)
pins on every part: 4 -V (power), 8 +V (power)
part A pins: 1 OUT A (out), 2 -IN A (in), 3 +IN A (in)
part B pins: 5 +IN B (in), 6 -IN B (in), 7 OUT B (out)

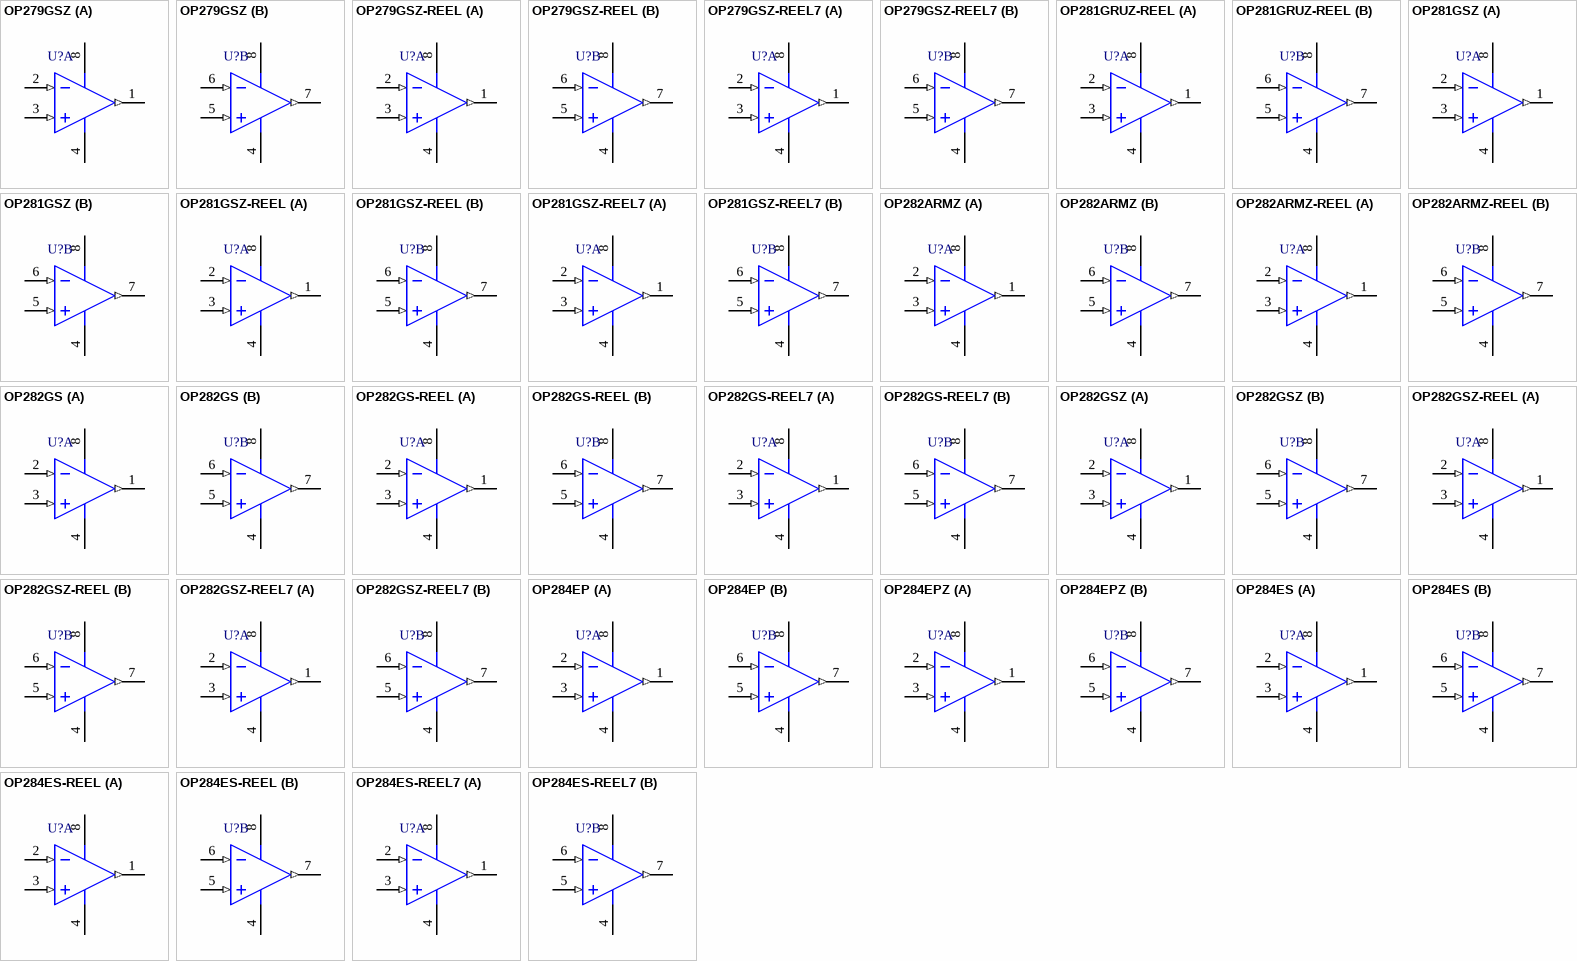
[diagram p96: symbols OP279GSZ to OP284ES-REEL7]

## OP279GSZ
designator U?
Double Channel Rail-to-Rail Operational Amplifier, 5 MHz BW, 3 V/us SR, Industrial, 8-pin SOIC (R-8), Tube; Generic Part Number: OP279; Manufacturer: Analog Devices; PartNumber: OP279GSZ; Amplifiers Per Package: 2; Input Bias Current: 300nA; Input Offset Voltage: 4mV; Iq/Amp: 3.5mA; Slew Rate: 3V/us; Small Signal Bandwidth: 5MHz; V Span Max: 12V; V Span Min: 4.5V; DatasheetVersion: Rev. G; PackageVersion: 060506-A; PackageReference: R-8; PackageDescription: 8-Pin Standard Small Outline Package, Body 3.9 x 4.9 mm, Pitch 1.27 mm; Supplier 1: Digi-Key; Supplier Part Number 1: OP279GSZ-ND; Supplier 2: Farnell; Supplier Part Number 2: 9994424; Supplier 3: Newark; Supplier Part Number 3: 88H0663; Mounting Technology: Surface Mount; Code_JEDEC: MS-012-AA; ComponentLink1Description: Manufacturer URL; ComponentLink1URL: http://www.analog.com/en/index.html; ComponentLink2Description: Datasheet; ComponentLink2URL: http://www.analog.com/static/imported-files/data_sheets/OP179_279.pdf; ComponentLink3Description: Package Specification; ComponentLink3URL: http://www.analog.com/static/imported-files/packages/PKG_PDF/SOIC_Narrow%20(R)/R_8.pdf
footprint ADI-R-8_N (SOIC, 8-Leads, Body 4.9x3.9mm, Pitch 1.27mm, IPC Medium Density)
footprint ADI-R-8_L (SOIC, 8-Leads, Body 4.9x3.9mm, Pitch 1.27mm, IPC High Density)
footprint ADI-R-8_M (SOIC, 8-Leads, Body 4.9x3.9mm, Pitch 1.27mm, IPC Low Density)
pins on every part: 4 -V (power), 8 +V (power)
part A pins: 1 OUT A (out), 2 -IN A (in), 3 +IN A (in)
part B pins: 5 +IN B (in), 6 -IN B (in), 7 OUT B (out)

## OP279GSZ-REEL
designator U?
Double Channel Rail-to-Rail Operational Amplifier, 5 MHz BW, 3 V/us SR, Industrial, 8-pin SOIC (R-8), Reel; Generic Part Number: OP279; Manufacturer: Analog Devices; PartNumber: OP279GSZ-REEL; Amplifiers Per Package: 2; Input Bias Current: 300nA; Input Offset Voltage: 4mV; Iq/Amp: 3.5mA; Slew Rate: 3V/us; Small Signal Bandwidth: 5MHz; V Span Max: 12V; V Span Min: 4.5V; DatasheetVersion: Rev. G; PackageVersion: 060506-A; PackageReference: R-8; PackageDescription: 8-Pin Standard Small Outline Package, Body 3.9 x 4.9 mm, Pitch 1.27 mm; Supplier 1: Digi-Key; Supplier Part Number 1: OP279GSZ-REEL-ND; Mounting Technology: Surface Mount; Code_JEDEC: MS-012-AA; ComponentLink1Description: Manufacturer URL; ComponentLink1URL: http://www.analog.com/en/index.html; ComponentLink2Description: Datasheet; ComponentLink2URL: http://www.analog.com/static/imported-files/data_sheets/OP179_279.pdf; ComponentLink3Description: Package Specification; ComponentLink3URL: http://www.analog.com/static/imported-files/packages/PKG_PDF/SOIC_Narrow%20(R)/R_8.pdf
footprint ADI-R-8_N (SOIC, 8-Leads, Body 4.9x3.9mm, Pitch 1.27mm, IPC Medium Density)
footprint ADI-R-8_L (SOIC, 8-Leads, Body 4.9x3.9mm, Pitch 1.27mm, IPC High Density)
footprint ADI-R-8_M (SOIC, 8-Leads, Body 4.9x3.9mm, Pitch 1.27mm, IPC Low Density)
pins on every part: 4 -V (power), 8 +V (power)
part A pins: 1 OUT A (out), 2 -IN A (in), 3 +IN A (in)
part B pins: 5 +IN B (in), 6 -IN B (in), 7 OUT B (out)

## OP279GSZ-REEL7
designator U?
Double Channel Rail-to-Rail Operational Amplifier, 5 MHz BW, 3 V/us SR, Industrial, 8-pin SOIC (R-8), Reel; Generic Part Number: OP279; Manufacturer: Analog Devices; PartNumber: OP279GSZ-REEL7; Amplifiers Per Package: 2; Input Bias Current: 300nA; Input Offset Voltage: 4mV; Iq/Amp: 3.5mA; Slew Rate: 3V/us; Small Signal Bandwidth: 5MHz; V Span Max: 12V; V Span Min: 4.5V; DatasheetVersion: Rev. G; PackageVersion: 060506-A; PackageReference: R-8; PackageDescription: 8-Pin Standard Small Outline Package, Body 3.9 x 4.9 mm, Pitch 1.27 mm; Supplier 1: Digi-Key; Supplier Part Number 1: OP279GSZ-REEL7TR-ND; Supplier 2: Digi-Key; Supplier Part Number 2: OP279GSZ-REEL7CT-ND; Supplier 3: Digi-Key; Supplier Part Number 3: OP279GSZ-REEL7DKR-ND; Supplier 4: Newark; Supplier Part Number 4: 88H0665; Mounting Technology: Surface Mount; Code_JEDEC: MS-012-AA; ComponentLink1Description: Manufacturer URL; ComponentLink1URL: http://www.analog.com/en/index.html; ComponentLink2Description: Datasheet; ComponentLink2URL: http://www.analog.com/static/imported-files/data_sheets/OP179_279.pdf; ComponentLink3Description: Package Specification; ComponentLink3URL: http://www.analog.com/static/imported-files/packages/PKG_PDF/SOIC_Narrow%20(R)/R_8.pdf
footprint ADI-R-8_N (SOIC, 8-Leads, Body 4.9x3.9mm, Pitch 1.27mm, IPC Medium Density)
footprint ADI-R-8_L (SOIC, 8-Leads, Body 4.9x3.9mm, Pitch 1.27mm, IPC High Density)
footprint ADI-R-8_M (SOIC, 8-Leads, Body 4.9x3.9mm, Pitch 1.27mm, IPC Low Density)
pins on every part: 4 -V (power), 8 +V (power)
part A pins: 1 OUT A (out), 2 -IN A (in), 3 +IN A (in)
part B pins: 5 +IN B (in), 6 -IN B (in), 7 OUT B (out)

## OP281GRUZ-REEL
designator U?
Double Channel Single-Supply Operation Operational Amplifier, 105 KHz BW, 28 mV/us SR, Industrial, 8-pin SOP (RU-8), Reel; Generic Part Number: OP281; Manufacturer: Analog Devices; PartNumber: OP281GRUZ-REEL; Amplifiers Per Package: 2; Input Bias Current: 3nA; Input Offset Voltage: 100uV; Iq/Amp: 5uA; Small Signal Bandwidth: 105KHz; V Span Max: 12V; V Span Min: 2.7V; DatasheetVersion: Rev. D; PackageReference: RU-8; PackageDescription: 8-Pin Thin Shrink Small Outline Package, Body 3 x 4.4 mm, Pitch 0.65 mm; Supplier 1: Digi-Key; Supplier Part Number 1: OP281GRUZ-REELTR-ND; Supplier 2: Digi-Key; Supplier Part Number 2: OP281GRUZ-REELCT-ND; Supplier 3: Digi-Key; Supplier Part Number 3: OP281GRUZ-REELDKR-ND; Supplier 4: Newark; Supplier Part Number 4: 59K8838; Packing: Reel; Slew Rate: 28mV/us; Mounting Technology: Surface Mount; Code_JEDEC: MO-153AA; ComponentLink1Description: Manufacturer URL; ComponentLink1URL: http://www.analog.com/en/index.html; ComponentLink2Description: Datasheet; ComponentLink2URL: http://www.analog.com/static/imported-files/data_sheets/OP281_OP481.pdf; ComponentLink3Description: Package Specification; ComponentLink3URL: http://www.analog.com/static/imported-files/packages/359224089841708504863856053953356548880RU08.pdf
footprint ADI-RU-8_N (SOP, 8-Leads, Body 4.4x3mm, Pitch 0.65mm, IPC Medium Density)
footprint ADI-RU-8_L (SOP, 8-Leads, Body 4.4x3mm, Pitch 0.65mm, IPC High Density)
footprint ADI-RU-8_M (SOP, 8-Leads, Body 4.4x3mm, Pitch 0.65mm, IPC Low Density)
pins on every part: 4 -V (power), 8 +V (power)
part A pins: 1 OUT A (out), 2 -IN A (in), 3 +IN A (in)
part B pins: 5 +IN B (in), 6 -IN B (in), 7 OUT B (out)

## OP281GSZ
designator U?
Double Channel Single-Supply Operation Operational Amplifier, 105 KHz BW, 28 mV/us SR, Industrial, 8-pin SOIC (R-8), Tube; Generic Part Number: OP281; Manufacturer: Analog Devices; PartNumber: OP281GSZ; Amplifiers Per Package: 2; Input Bias Current: 3nA; Input Offset Voltage: 100uV; Iq/Amp: 5uA; Small Signal Bandwidth: 105KHz; V Span Max: 12V; V Span Min: 2.7V; DatasheetVersion: Rev. D; PackageVersion: 060506-A; PackageReference: R-8; PackageDescription: 8-Pin Standard Small Outline Package, Body 3.9 x 4.9 mm, Pitch 1.27 mm; Supplier 1: Digi-Key; Supplier Part Number 1: OP281GSZ-ND; Supplier 2: Farnell; Supplier Part Number 2: 1438998; Supplier 3: Newark; Supplier Part Number 3: 15P2298; Supplier 4: Newark; Supplier Part Number 4: 59K8839; Packing: Tube; Slew Rate: 28mV/us; Mounting Technology: Surface Mount; Code_JEDEC: MS-012-AA; ComponentLink1Description: Manufacturer URL; ComponentLink1URL: http://www.analog.com/en/index.html; ComponentLink2Description: Datasheet; ComponentLink2URL: http://www.analog.com/static/imported-files/data_sheets/OP281_OP481.pdf; ComponentLink3Description: Package Specification; ComponentLink3URL: http://www.analog.com/static/imported-files/packages/PKG_PDF/SOIC_Narrow%20(R)/R_8.pdf
footprint ADI-R-8_N (SOIC, 8-Leads, Body 4.9x3.9mm, Pitch 1.27mm, IPC Medium Density)
footprint ADI-R-8_L (SOIC, 8-Leads, Body 4.9x3.9mm, Pitch 1.27mm, IPC High Density)
footprint ADI-R-8_M (SOIC, 8-Leads, Body 4.9x3.9mm, Pitch 1.27mm, IPC Low Density)
pins on every part: 4 -V (power), 8 +V (power)
part A pins: 1 OUT A (out), 2 -IN A (in), 3 +IN A (in)
part B pins: 5 +IN B (in), 6 -IN B (in), 7 OUT B (out)

## OP281GSZ-REEL
designator U?
Double Channel Single-Supply Operation Operational Amplifier, 105 KHz BW, 28 mV/us SR, Industrial, 8-pin SOIC (R-8), Reel; Generic Part Number: OP281; Manufacturer: Analog Devices; PartNumber: OP281GSZ-REEL; Amplifiers Per Package: 2; Input Bias Current: 3nA; Input Offset Voltage: 100uV; Iq/Amp: 5uA; Small Signal Bandwidth: 105KHz; V Span Max: 12V; V Span Min: 2.7V; DatasheetVersion: Rev. D; PackageVersion: 060506-A; PackageReference: R-8; PackageDescription: 8-Pin Standard Small Outline Package, Body 3.9 x 4.9 mm, Pitch 1.27 mm; Supplier 1: Digi-Key; Supplier Part Number 1: OP281GSZ-REEL-ND; Packing: Reel; Slew Rate: 28mV/us; Mounting Technology: Surface Mount; Code_JEDEC: MS-012-AA; ComponentLink1Description: Manufacturer URL; ComponentLink1URL: http://www.analog.com/en/index.html; ComponentLink2Description: Datasheet; ComponentLink2URL: http://www.analog.com/static/imported-files/data_sheets/OP281_OP481.pdf; ComponentLink3Description: Package Specification; ComponentLink3URL: http://www.analog.com/static/imported-files/packages/PKG_PDF/SOIC_Narrow%20(R)/R_8.pdf
footprint ADI-R-8_N (SOIC, 8-Leads, Body 4.9x3.9mm, Pitch 1.27mm, IPC Medium Density)
footprint ADI-R-8_L (SOIC, 8-Leads, Body 4.9x3.9mm, Pitch 1.27mm, IPC High Density)
footprint ADI-R-8_M (SOIC, 8-Leads, Body 4.9x3.9mm, Pitch 1.27mm, IPC Low Density)
pins on every part: 4 -V (power), 8 +V (power)
part A pins: 1 OUT A (out), 2 -IN A (in), 3 +IN A (in)
part B pins: 5 +IN B (in), 6 -IN B (in), 7 OUT B (out)

## OP281GSZ-REEL7
designator U?
Double Channel Single-Supply Operation Operational Amplifier, 105 KHz BW, 28 mV/us SR, Industrial, 8-pin SOIC (R-8), Reel; Generic Part Number: OP281; Manufacturer: Analog Devices; PartNumber: OP281GSZ-REEL7; Amplifiers Per Package: 2; Input Bias Current: 3nA; Input Offset Voltage: 100uV; Iq/Amp: 5uA; Small Signal Bandwidth: 105KHz; V Span Max: 12V; V Span Min: 2.7V; DatasheetVersion: Rev. D; PackageVersion: 060506-A; PackageReference: R-8; PackageDescription: 8-Pin Standard Small Outline Package, Body 3.9 x 4.9 mm, Pitch 1.27 mm; Supplier 1: Digi-Key; Supplier Part Number 1: OP281GSZ-REEL7-ND; Packing: Reel; Slew Rate: 28mV/us; Mounting Technology: Surface Mount; Code_JEDEC: MS-012-AA; ComponentLink1Description: Manufacturer URL; ComponentLink1URL: http://www.analog.com/en/index.html; ComponentLink2Description: Datasheet; ComponentLink2URL: http://www.analog.com/static/imported-files/data_sheets/OP281_OP481.pdf; ComponentLink3Description: Package Specification; ComponentLink3URL: http://www.analog.com/static/imported-files/packages/PKG_PDF/SOIC_Narrow%20(R)/R_8.pdf
footprint ADI-R-8_N (SOIC, 8-Leads, Body 4.9x3.9mm, Pitch 1.27mm, IPC Medium Density)
footprint ADI-R-8_L (SOIC, 8-Leads, Body 4.9x3.9mm, Pitch 1.27mm, IPC High Density)
footprint ADI-R-8_M (SOIC, 8-Leads, Body 4.9x3.9mm, Pitch 1.27mm, IPC Low Density)
pins on every part: 4 -V (power), 8 +V (power)
part A pins: 1 OUT A (out), 2 -IN A (in), 3 +IN A (in)
part B pins: 5 +IN B (in), 6 -IN B (in), 7 OUT B (out)

## OP282ARMZ
designator U?
Double Channel Wide Bandwidth Operational Amplifier, 4 MHz BW, 9 V/us SR, Industrial, 8-pin SOP (RM-8), Tube; Generic Part Number: OP282; Manufacturer: Analog Devices; PartNumber: OP282ARMZ; Amplifiers Per Package: 2; Input Bias Current: 3pA; Input Offset Voltage: 200uV; Iq/Amp: 250uA; Slew Rate: 9V/us; Small Signal Bandwidth: 4MHz; V Span Max: 36V; V Span Min: 9V; DatasheetVersion: 081709-B; PackageReference: RM-8; PackageDescription: 8-Pin Mini Small Outline Package, Body 3 x 3 mm, Pitch 0.65 mm; Supplier 1: Digi-Key; Supplier Part Number 1: OP282ARMZ-ND; Supplier 2: Newark; Supplier Part Number 2: 45P7992; Mounting Technology: Surface Mount; Code_JEDEC: MO-187-AA; ComponentLink1Description: Manufacturer URL; ComponentLink1URL: http://www.analog.com/en/index.html; ComponentLink2Description: Datasheet; ComponentLink2URL: http://www.analog.com/static/imported-files/data_sheets/OP282_OP482.pdf; ComponentLink3Description: Package Specification; ComponentLink3URL: http://www.analog.com/static/imported-files/packages/PKG_PDF/MSOP%28RM%29/RM_8.pdf
footprint ADI-RM-8_N (SOP, 8-Leads, Body 3x3mm, Pitch 0.65mm, IPC Medium Density)
footprint ADI-RM-8_L (SOP, 8-Leads, Body 3x3mm, Pitch 0.65mm, IPC High Density)
footprint ADI-RM-8_M (SOP, 8-Leads, Body 3x3mm, Pitch 0.65mm, IPC Low Density)
pins on every part: 4 -V (power), 8 +V (power)
part A pins: 1 OUT A (out), 2 -IN A (in), 3 +IN A (in)
part B pins: 5 +IN B (in), 6 -IN B (in), 7 OUT B (out)

## OP282ARMZ-REEL
designator U?
Double Channel Wide Bandwidth Operational Amplifier, 4 MHz BW, 9 V/us SR, Industrial, 8-pin SOP (RM-8), Reel; Generic Part Number: OP282; Manufacturer: Analog Devices; PartNumber: OP282ARMZ-REEL; Amplifiers Per Package: 2; Input Bias Current: 3pA; Input Offset Voltage: 200uV; Iq/Amp: 250uA; Slew Rate: 9V/us; Small Signal Bandwidth: 4MHz; V Span Max: 36V; V Span Min: 9V; DatasheetVersion: 081709-B; PackageReference: RM-8; PackageDescription: 8-Pin Mini Small Outline Package, Body 3 x 3 mm, Pitch 0.65 mm; Supplier 1: Digi-Key; Supplier Part Number 1: OP282ARMZ-REELTR-ND; Supplier 2: Digi-Key; Supplier Part Number 2: OP282ARMZ-REELCT-ND; Supplier 3: Digi-Key; Supplier Part Number 3: OP282ARMZ-REELDKR-ND; Supplier 4: Newark; Supplier Part Number 4: 59K8842; Mounting Technology: Surface Mount; Code_JEDEC: MO-187-AA; ComponentLink1Description: Manufacturer URL; ComponentLink1URL: http://www.analog.com/en/index.html; ComponentLink2Description: Datasheet; ComponentLink2URL: http://www.analog.com/static/imported-files/data_sheets/OP282_OP482.pdf; ComponentLink3Description: Package Specification; ComponentLink3URL: http://www.analog.com/static/imported-files/packages/PKG_PDF/MSOP%28RM%29/RM_8.pdf
footprint ADI-RM-8_N (SOP, 8-Leads, Body 3x3mm, Pitch 0.65mm, IPC Medium Density)
footprint ADI-RM-8_L (SOP, 8-Leads, Body 3x3mm, Pitch 0.65mm, IPC High Density)
footprint ADI-RM-8_M (SOP, 8-Leads, Body 3x3mm, Pitch 0.65mm, IPC Low Density)
pins on every part: 4 -V (power), 8 +V (power)
part A pins: 1 OUT A (out), 2 -IN A (in), 3 +IN A (in)
part B pins: 5 +IN B (in), 6 -IN B (in), 7 OUT B (out)

## OP282GS
designator U?
Double Channel Wide Bandwidth Operational Amplifier, 4 MHz BW, 9 V/us SR, Industrial, 8-pin SOIC (R-8), Tube; Generic Part Number: OP282; Manufacturer: Analog Devices; PartNumber: OP282GS; Amplifiers Per Package: 2; Input Bias Current: 3pA; Input Offset Voltage: 200uV; Iq/Amp: 250uA; Slew Rate: 9V/us; Small Signal Bandwidth: 4MHz; V Span Max: 36V; V Span Min: 9V; DatasheetVersion: 081709-B; PackageVersion: 060506-A; PackageReference: R-8; PackageDescription: 8-Pin Standard Small Outline Package, Body 3.9 x 4.9 mm, Pitch 1.27 mm; Supplier 1: Digi-Key; Supplier Part Number 1: OP282GS-ND; Mounting Technology: Surface Mount; Code_JEDEC: MS-012-AA; ComponentLink1Description: Manufacturer URL; ComponentLink1URL: http://www.analog.com/en/index.html; ComponentLink2Description: Datasheet; ComponentLink2URL: http://www.analog.com/static/imported-files/data_sheets/OP282_OP482.pdf; ComponentLink3Description: Package Specification; ComponentLink3URL: http://www.analog.com/static/imported-files/packages/PKG_PDF/SOIC_Narrow%20(R)/R_8.pdf
footprint ADI-R-8_N (SOIC, 8-Leads, Body 4.9x3.9mm, Pitch 1.27mm, IPC Medium Density)
footprint ADI-R-8_L (SOIC, 8-Leads, Body 4.9x3.9mm, Pitch 1.27mm, IPC High Density)
footprint ADI-R-8_M (SOIC, 8-Leads, Body 4.9x3.9mm, Pitch 1.27mm, IPC Low Density)
pins on every part: 4 -V (power), 8 +V (power)
part A pins: 1 OUT A (out), 2 -IN A (in), 3 +IN A (in)
part B pins: 5 +IN B (in), 6 -IN B (in), 7 OUT B (out)

## OP282GS-REEL
designator U?
Double Channel Wide Bandwidth Operational Amplifier, 4 MHz BW, 9 V/us SR, Industrial, 8-pin SOIC (R-8), Reel; Generic Part Number: OP282; Manufacturer: Analog Devices; PartNumber: OP282GS-REEL; Amplifiers Per Package: 2; Input Bias Current: 3pA; Input Offset Voltage: 200uV; Iq/Amp: 250uA; Slew Rate: 9V/us; Small Signal Bandwidth: 4MHz; V Span Max: 36V; V Span Min: 9V; DatasheetVersion: 081709-B; PackageVersion: 060506-A; PackageReference: R-8; PackageDescription: 8-Pin Standard Small Outline Package, Body 3.9 x 4.9 mm, Pitch 1.27 mm; Supplier 1: Digi-Key; Supplier Part Number 1: OP282GS-REELTR-ND; Supplier 2: Newark; Supplier Part Number 2: 13B4602; Mounting Technology: Surface Mount; Code_JEDEC: MS-012-AA; ComponentLink1Description: Manufacturer URL; ComponentLink1URL: http://www.analog.com/en/index.html; ComponentLink2Description: Datasheet; ComponentLink2URL: http://www.analog.com/static/imported-files/data_sheets/OP282_OP482.pdf; ComponentLink3Description: Package Specification; ComponentLink3URL: http://www.analog.com/static/imported-files/packages/PKG_PDF/SOIC_Narrow%20(R)/R_8.pdf
footprint ADI-R-8_N (SOIC, 8-Leads, Body 4.9x3.9mm, Pitch 1.27mm, IPC Medium Density)
footprint ADI-R-8_L (SOIC, 8-Leads, Body 4.9x3.9mm, Pitch 1.27mm, IPC High Density)
footprint ADI-R-8_M (SOIC, 8-Leads, Body 4.9x3.9mm, Pitch 1.27mm, IPC Low Density)
pins on every part: 4 -V (power), 8 +V (power)
part A pins: 1 OUT A (out), 2 -IN A (in), 3 +IN A (in)
part B pins: 5 +IN B (in), 6 -IN B (in), 7 OUT B (out)

## OP282GS-REEL7
designator U?
Double Channel Wide Bandwidth Operational Amplifier, 4 MHz BW, 9 V/us SR, Industrial, 8-pin SOIC (R-8), Reel; Generic Part Number: OP282; Manufacturer: Analog Devices; PartNumber: OP282GS-REEL7; Amplifiers Per Package: 2; Input Bias Current: 3pA; Input Offset Voltage: 200uV; Iq/Amp: 250uA; Slew Rate: 9V/us; Small Signal Bandwidth: 4MHz; V Span Max: 36V; V Span Min: 9V; DatasheetVersion: 081709-B; PackageVersion: 060506-A; PackageReference: R-8; PackageDescription: 8-Pin Standard Small Outline Package, Body 3.9 x 4.9 mm, Pitch 1.27 mm; Supplier 1: Digi-Key; Supplier Part Number 1: OP282GS-REEL7TR-ND; Supplier 2: Newark; Supplier Part Number 2: 13B4603; Packing: Reel; Mounting Technology: Surface Mount; Code_JEDEC: MS-012-AA; ComponentLink1Description: Manufacturer URL; ComponentLink1URL: http://www.analog.com/en/index.html; ComponentLink2Description: Datasheet; ComponentLink2URL: http://www.analog.com/static/imported-files/data_sheets/OP282_OP482.pdf; ComponentLink3Description: Package Specification; ComponentLink3URL: http://www.analog.com/static/imported-files/packages/PKG_PDF/SOIC_Narrow%20(R)/R_8.pdf
footprint ADI-R-8_N (SOIC, 8-Leads, Body 4.9x3.9mm, Pitch 1.27mm, IPC Medium Density)
footprint ADI-R-8_L (SOIC, 8-Leads, Body 4.9x3.9mm, Pitch 1.27mm, IPC High Density)
footprint ADI-R-8_M (SOIC, 8-Leads, Body 4.9x3.9mm, Pitch 1.27mm, IPC Low Density)
pins on every part: 4 -V (power), 8 +V (power)
part A pins: 1 OUT A (out), 2 -IN A (in), 3 +IN A (in)
part B pins: 5 +IN B (in), 6 -IN B (in), 7 OUT B (out)